# Altium footprint library Components - 31.10.20 - 15.35.PcbLib: 1 footprints
Each footprint in its own frame and in the unit in brackets; x right, y up, seen from the top. Pads: shape width x height; smd on the part's side, far side on the other; paste and mask are expansions set on the pad; w line width, h text height; cw(c..) or ccw(c..) is an arc to the next point about the centre after c.
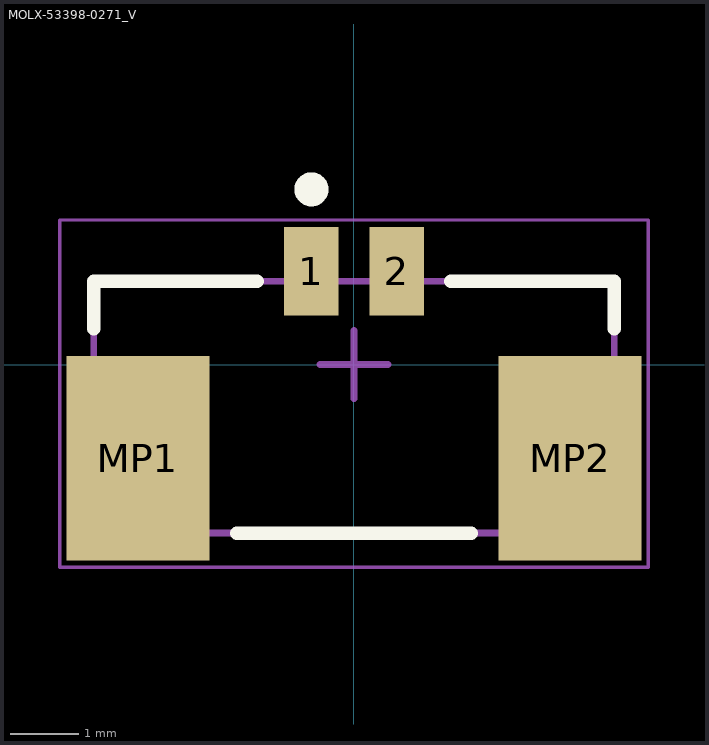
[diagram p0: the footprint, top view; thin cyan lines are the x and y axes]

## MOLX-53398-0271_V [mm] "Header, 2-Leads, Body 7.65x3.7mm, Pitch 1.25mm"
height 4.7
pads (4):
  rect 0.8x1.3 smd: 1(-0.625,1.375) 2(0.625,1.375)
  rect 2.1x3 smd: MP1(-3.175,-1.375) MP2(3.175,-1.375)
Top Overlay:
  circle w0.25: c-0.625,2.575 r0.125
  lines w0.2: -3.825,0.525 -3.825,1.225 -1.425,1.225 ; -1.725,-2.475 1.725,-2.475 ; 1.425,1.225 3.825,1.225 3.825,0.525
Mechanical 13:
  lines w0.1: -3.825,-2.475 3.825,-2.475 3.825,1.225 -3.825,1.225 -3.825,-2.475
Mechanical 15:
  lines w0.05: -4.325,-2.975 -4.325,2.125 4.325,2.125 4.325,-2.975 -4.325,-2.975
  lines w0.1: -0.5,0 0.5,0 ; 0,-0.5 0,0.5
3D body "533980271.stp": height 4.72, standoff -0.02, extent -3.825,-2.87 3.825,1.33